# Altium integrated library MAX17048G_T10.IntLib: 1 symbol
Pins are listed as number, name and electrical type; pins without a type are passive.

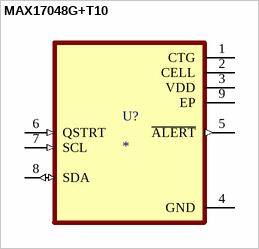
[diagram p0: symbol MAX17048G+T10]

## MAX17048G+T10
designator U?
3ÂµA 1-Cell/2-Cell Fuel Gauge with ModelGauge; MF: Analog Devices; MP: MAX17048G+T10; Package: TDFN-8 Maxim; Price: None; Check_prices: https://www.snapeda.com/parts/MAX17048G+T10/Analog+Devices/view-part/?ref=eda; Value: *; SnapEDA_Link: https://www.snapeda.com/parts/MAX17048G+T10/Analog+Devices/view-part/?ref=snap; Availability: In Stock; Purchase-URL: https://pricing.snapeda.com/search/part/MAX17048G+T10/?ref=eda
footprint SON50P200X200X80-9N
pins: 1 CTG (power), 2 CELL (power), 3 VDD (power), 4 GND (power), 5 ~{ALERT} (out), 6 QSTRT (in), 7 SCL (in), 8 SDA (io), 9 EP (power)